# EAGLE library part AT45DB641E (library chips_old)
64 Mbit flash memory
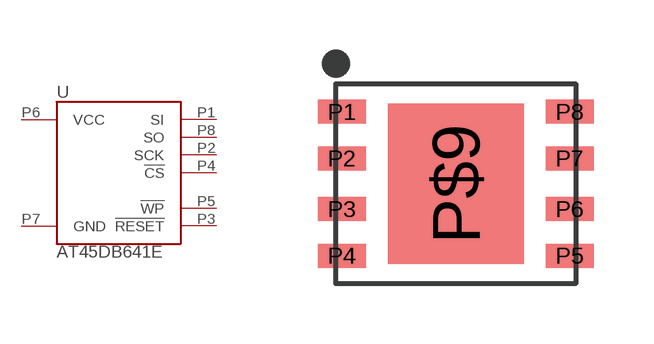
[diagram p66: symbol with the pads of UDFN-8-5MMX6MM; footprint UDFN-8-5MMX6MM]

Designator prefix U

## AT45DB641EUDFN (DIGIKEY: AT45DB641E-MHN-TCT-ND; MANUFACTURER: Adesto; MPN: AT45DB641E-MHN-T)  [UDFN-8-5MMX6MM]
P1  SI
P2  SCK
P3  !RESET
P4  !CS
P5  !WP
P6  VCC
P7  GND
P8  SO

## Footprint UDFN-8-5MMX6MM (pad centres in mm)
smd 1.2 x 0.6: P1 -2.85,1.8; P2 -2.85,0.635; P3 -2.85,-0.635; P4 -2.85,-1.8; P5 2.85,-1.8; P6 2.85,-0.635; P7 2.85,0.635; P8 2.85,1.8
smd 3.4 x 4: P$9 0,0